# Altium integrated library PCA9557PW_112.IntLib: 1 symbol
Pins are listed as number, name and electrical type; pins without a type are passive.

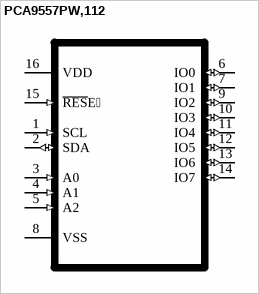
[diagram p0: symbol PCA9557PW,112]

## PCA9557PW,112
designator U?  (value not drawn)
PCA9557 Series 8-Bit I2C-Bus and SMBus I/O Port with Reset - TSSOP-16; MF: NXP Semiconductors; Availability: Good; Price: 0.72 USD; Package: TSSOP-16 NXP Semiconductors; MP: PCA9557PW,112; Value: *
footprint SOP65P640X110-16N
pins: 1 SCL (in), 2 SDA (io), 3 A0 (in), 4 A1 (in), 5 A2 (in), 6 IO0 (io), 7 IO1 (io), 8 VSS, 9 IO2 (io), 10 IO3 (io), 11 IO4 (io), 12 IO5 (io), 13 IO6 (io), 14 IO7 (io), 15 ~{RES}E (in), 16 VDD (power)